# Altium footprint library SamacSys.PcbLib: 69 footprints (part 3 of 5)
Each footprint in its own frame and in the unit in brackets; x right, y up, seen from the top. Pads: shape width x height; smd on the part's side, far side on the other; paste and mask are expansions set on the pad; w line width, h text height; cw(c..) or ccw(c..) is an arc to the next point about the centre after c.
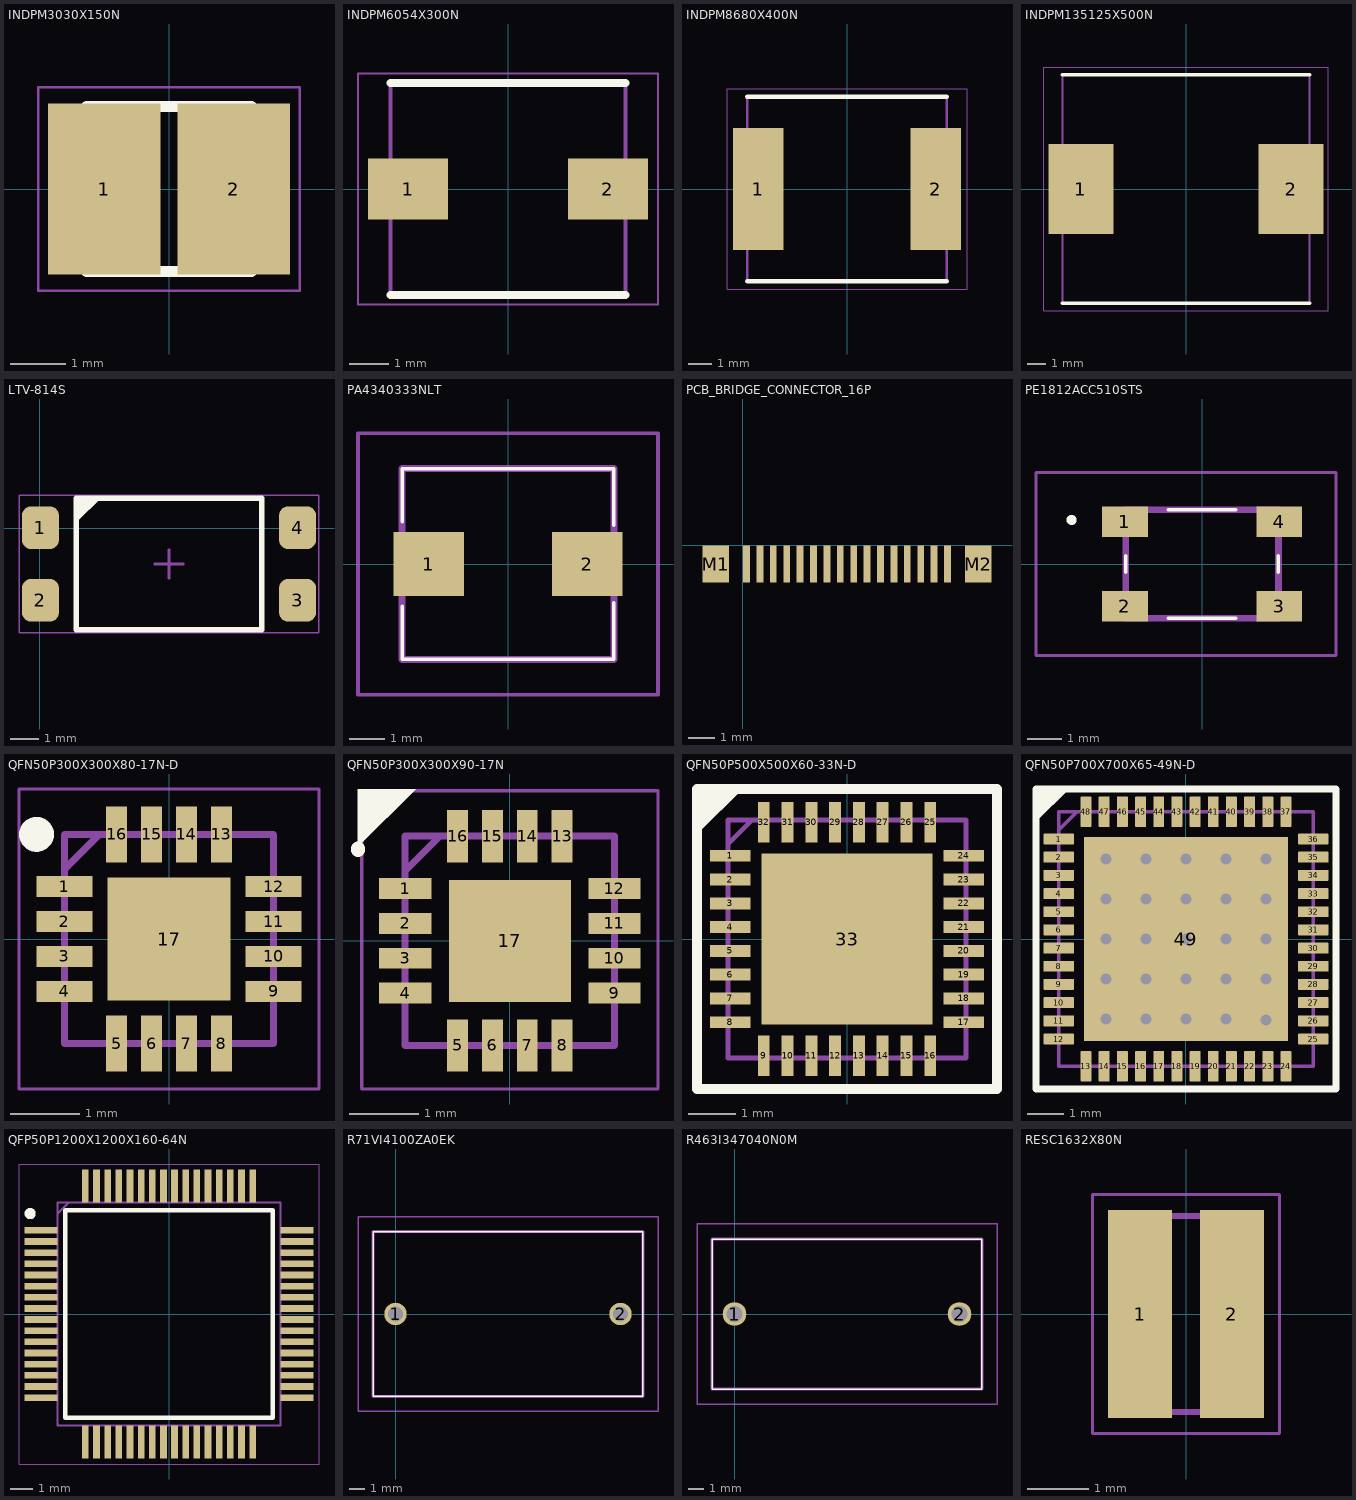
[diagram p2: the footprints below, top view; thin cyan lines are the x and y axes]

## INDPM3030X150N [mm]
pads (2):
  rect 2.05x3.1 smd: 1(-1.175,0) 2(1.175,0)
Top Overlay:
  lines w0.2: -1.5,-1.5 1.5,-1.5 ; -1.5,1.5 1.5,1.5
Mechanical 13:
  lines w0.1: -1.5,-1.5 1.5,-1.5 1.5,1.5 -1.5,1.5 -1.5,-1.5
Mechanical 15:
  lines w0.05: -2.375,-1.85 2.375,-1.85 2.375,1.85 -2.375,1.85 -2.375,-1.85
3D body "74438335010.stp": height 1.5, standoff 0, extent -1.5,-1.5 1.5,1.5

## INDPM6054X300N [mm]
pads (2):
  rect 2.05x1.55 smd: 1(-2.55,0) 2(2.55,0)
Top Overlay:
  lines w0.2: -3,-2.7 3,-2.7 ; -3,2.7 3,2.7
Mechanical 13:
  lines w0.1: -3,-2.7 3,-2.7 3,2.7 -3,2.7 -3,-2.7
Mechanical 15:
  lines w0.05: -3.825,-2.95 3.825,-2.95 3.825,2.95 -3.825,2.95 -3.825,-2.95
3D body "PA4340.472NLT.stp": height 3, standoff 0, extent -3,-2.7 3,2.7

## INDPM8680X400N [mm]
pads (2):
  rect 2.2x5.3 smd: 1(-3.85,0) 2(3.85,0)
Top Overlay:
  lines w0.2: -4.325,-4 4.325,-4 ; -4.325,4 4.325,4
Mechanical 13:
  lines w0.1: -4.325,-4 -4.325,4 4.325,4 4.325,-4 -4.325,-4
Mechanical 15:
  lines w0.05: -5.2,-4.35 -5.2,4.35 5.2,4.35 5.2,-4.35 -5.2,-4.35
3D body "MPX1D0840L470.stp": height 4, standoff 0, extent -4.325,-4 4.325,4

## INDPM135125X500N [mm]
pads (2):
  rect 3.55x4.9 smd: 1(-5.75,0) 2(5.75,0)
Top Overlay:
  lines w0.2: -6.75,-6.25 6.75,-6.25 ; -6.75,6.25 6.75,6.25
Mechanical 13:
  lines w0.1: -6.75,-6.25 -6.75,6.25 6.75,6.25 6.75,-6.25 -6.75,-6.25
Mechanical 15:
  lines w0.05: -7.775,-6.65 -7.775,6.65 7.775,6.65 7.775,-6.65 -7.775,-6.65
3D body "SRP1245A-R56M.stp": height 5, standoff 0, extent -6.75,-6.25 6.75,6.25

## LTV-814S [mm]
pads (4):
  rrect50% 1.3x1.5 smd: 1(0.017,0.026) 2(0.017,-2.514) 3(9.017,-2.514) 4(9.017,0.026)
Top Overlay:
  region: 1.342,0.28 2.104,1.042 1.281,1.042 1.267,1.056
  lines w0.2: 1.267,-3.544 1.267,1.056 7.767,1.056 7.767,-3.544 1.267,-3.544
Mechanical 13:
  lines w0.1: 1.267,-3.544 7.767,-3.544 7.767,1.056 1.267,1.056 1.267,-3.544
Mechanical 15:
  lines w0.05: -0.733,-3.644 9.767,-3.644 9.767,1.156 -0.733,1.156 -0.733,-3.644
  lines w0.1: 4.017,-1.244 5.017,-1.244 ; 4.517,-1.744 4.517,-0.744
3D body: height 4, standoff 0, extent 1.268,-3.543 7.766,1.055

## PA4340333NLT [mm]
pads (2):
  rect 2x1.8 smd: 1(-2.25,0) 2(2.25,0)
Top Overlay:
  lines w0.1: -3,-1.2 -3,-2.7 3,-2.7 3,-1.1 ; -3,1.2 -3,2.7 3,2.7 3,1.1
Mechanical 13:
  lines w0.2: -3,-2.7 -3,2.7 3,2.7 3,-2.7 -3,-2.7
Mechanical 15:
  lines w0.1: -4.25,-3.7 -4.25,3.7 4.25,3.7 4.25,-3.7 -4.25,-3.7
3D body "PA4340.333NLT.stp": height 3.1, standoff 0, extent -3.07,-2.7 3.07,2.7

## PCB_BRIDGE_CONNECTOR_16P [mm]
pads (18):
  rect 0.254x1.4 smd: 1(0.15,-0.7) 2(0.65,-0.7) 3(1.15,-0.7) 4(1.65,-0.7) 5(2.15,-0.7) 6(2.65,-0.7) 7(3.15,-0.7) 8(3.65,-0.7) 9(4.15,-0.7) 10(4.65,-0.7) 11(5.15,-0.7) 12(5.65,-0.7) 13(6.15,-0.7) 14(6.65,-0.7) 15(7.15,-0.7) 16(7.65,-0.7)
  rect 1x1.4 smd: M1(-1,-0.7) M2(8.8,-0.7)

## PE1812ACC510STS [mm]
pads (4):
  rect 1.35x0.9 smd: 1(-2.275,1.25) 2(-2.275,-1.25) 3(2.275,-1.25) 4(2.275,1.25)
Top Overlay:
  lines w0.1: -2.25,-0.25 -2.25,0.25 -2.25,-0.25 ; -1,-1.6 1,-1.6 -1,-1.6 ; -1,1.6 1,1.6 -1,1.6 ; 2.25,-0.25 2.25,0.25 2.25,-0.25
  lines w0.2: -3.9,1.3 ccw(c-3.85,1.3) -3.8,1.3 ; -3.9,1.3 cw(c-3.85,1.3) -3.8,1.3 ; -3.9,1.3 ccw(c-3.85,1.3) -3.8,1.3
Mechanical 13:
  lines w0.2: -2.25,-1.6 -2.25,1.6 2.25,1.6 2.25,-1.6 -2.25,-1.6
Mechanical 15:
  lines w0.1: -4.9,-2.7 -4.9,2.7 3.95,2.7 3.95,-2.7 -4.9,-2.7
3D body "PE-1812ACC510STS.stp": height 3.1, standoff 0, extent -2.86,-1.61 2.86,1.61

## QFN50P300X300X80-17N-D [mm]
pads (17):
  rect 0.8x0.3 smd: 1(-1.5,0.75) 2(-1.5,0.25) 3(-1.5,-0.25) 4(-1.5,-0.75) 9(1.5,-0.75) 10(1.5,-0.25) 11(1.5,0.25) 12(1.5,0.75)
  rect 0.3x0.8 smd: 5(-0.75,-1.5) 6(-0.25,-1.5) 7(0.25,-1.5) 8(0.75,-1.5) 13(0.75,1.5) 14(0.25,1.5) 15(-0.25,1.5) 16(-0.75,1.5)
  rect 1.76x1.76 smd: 17(0,0)
Top Overlay:
  circle w0.25: c-1.9,1.5 r0.125
Mechanical 13:
  lines w0.1: -1.5,1 -1,1.5 ; -1.5,-1.5 -1.5,1.5 1.5,1.5 1.5,-1.5 -1.5,-1.5
Mechanical 15:
  lines w0.05: -2.15,-2.15 -2.15,2.15 2.15,2.15 2.15,-2.15 -2.15,-2.15
3D body "LM51571QRTERQ1.stp": height 0.8, standoff 0, extent -1.5,-1.5 1.5,1.5

## QFN50P300X300X90-17N [mm]
pads (17):
  rect 0.75x0.3 smd: 1(-1.5,0.75) 2(-1.5,0.25) 3(-1.5,-0.25) 4(-1.5,-0.75) 9(1.5,-0.75) 10(1.5,-0.25) 11(1.5,0.25) 12(1.5,0.75)
  rect 0.3x0.75 smd: 5(-0.75,-1.5) 6(-0.25,-1.5) 7(0.25,-1.5) 8(0.75,-1.5) 13(0.75,1.5) 14(0.25,1.5) 15(-0.25,1.5) 16(-0.75,1.5)
  rect 1.75x1.75 smd: 17(0,0)
Top Overlay:
  region: -2.177,1.348 -1.35,2.175 -2.175,2.175 -2.177,2.177
  lines w0.2: -2.177,1.3 -2.177,1.323
Mechanical 13:
  lines w0.1: -1.5,1 -1,1.5 ; -1.5,-1.5 1.5,-1.5 1.5,1.5 -1.5,1.5 -1.5,-1.5
Mechanical 15:
  lines w0.05: -2.125,-2.125 2.125,-2.125 ; -2.125,-2.1 -2.125,2.15 2.125,2.15 2.125,-2.1
3D body "MIC2128YML-TR.stp": height 0.9, standoff 0, extent -1.55,-1.55 1.55,1.55

## QFN50P500X500X60-33N-D [mm]
pads (33):
  rect 0.85x0.25 smd: 1(-2.45,1.75) 2(-2.45,1.25) 3(-2.45,0.75) 4(-2.45,0.25) 5(-2.45,-0.25) 6(-2.45,-0.75) 7(-2.45,-1.25) 8(-2.45,-1.75) 17(2.45,-1.75) 18(2.45,-1.25) 19(2.45,-0.75) 20(2.45,-0.25) 21(2.45,0.25) 22(2.45,0.75) 23(2.45,1.25) 24(2.45,1.75)
  rect 0.25x0.85 smd: 9(-1.75,-2.45) 10(-1.25,-2.45) 11(-0.75,-2.45) 12(-0.25,-2.45) 13(0.25,-2.45) 14(0.75,-2.45) 15(1.25,-2.45) 16(1.75,-2.45) 25(1.75,2.45) 26(1.25,2.45) 27(0.75,2.45) 28(0.25,2.45) 29(-0.25,2.45) 30(-0.75,2.45) 31(-1.25,2.45) 32(-1.75,2.45)
  rect 3.6x3.6 smd: 33(0,0)
Top Overlay:
  region: -3.152,3.152 -3.152,2.25 -3.1,2.25 -2.201,3.149
  lines w0.2: -3.152,-3.152 3.152,-3.152 3.152,3.152 -3.152,3.152 -3.152,-3.152
Mechanical 13:
  lines w0.1: -2.5,2 -2,2.5 ; -2.5,-2.5 2.5,-2.5 2.5,2.5 -2.5,2.5 -2.5,-2.5
Mechanical 15:
  lines w0.05: -3.125,-3.125 3.125,-3.125 3.125,3.125 -3.125,3.125 -3.125,-3.125
3D body "STM32G431KBU3.stp": height 0.6, standoff 0, extent -2.55,-2.55 2.55,2.55

## QFN50P700X700X65-49N-D [mm]
pads (49):
  rrect20% 0.85x0.3 smd mask+0.06: 1(-3.5,2.75) 2(-3.5,2.25) 3(-3.5,1.75) 4(-3.5,1.25) 5(-3.5,0.75) 6(-3.5,0.25) 7(-3.5,-0.25) 8(-3.5,-0.75) 9(-3.5,-1.25) 10(-3.5,-1.75) 11(-3.5,-2.25) 12(-3.5,-2.75) 25(3.5,-2.75) 26(3.5,-2.25) 27(3.5,-1.75) 28(3.5,-1.25) 29(3.5,-0.75) 30(3.5,-0.25) 31(3.5,0.25) 32(3.5,0.75) 33(3.5,1.25) 34(3.5,1.75) 35(3.5,2.25) 36(3.5,2.75)
  rrect20% 0.3x0.85 smd mask+0.06: 13(-2.75,-3.5) 14(-2.25,-3.5) 15(-1.75,-3.5) 16(-1.25,-3.5) 17(-0.75,-3.5) 18(-0.25,-3.5) 19(0.25,-3.5) 20(0.75,-3.5) 21(1.25,-3.5) 22(1.75,-3.5) 23(2.25,-3.5) 24(2.75,-3.5) 37(2.75,3.5) 38(2.25,3.5) 39(1.75,3.5) 40(1.25,3.5) 41(0.75,3.5) 42(0.25,3.5) 43(-0.25,3.5) 44(-0.75,3.5) 45(-1.25,3.5) 46(-1.75,3.5) 47(-2.25,3.5) 48(-2.75,3.5)
  rect 5.6x5.6 smd mask+0.06: 49(0,0)
via 0,0 diameter 0.6 hole 0.3
via -1.1,0 diameter 0.6 hole 0.3
via -2.2,0 diameter 0.6 hole 0.3
via -2.2,2.2 diameter 0.6 hole 0.3
via -2.2,1.1 diameter 0.6 hole 0.3
via -2.2,-2.2 diameter 0.6 hole 0.3
via -2.2,-1.1 diameter 0.6 hole 0.3
via -1.1,1.1 diameter 0.6 hole 0.3
via -1.1,2.2 diameter 0.6 hole 0.3
via -1.1,-1.1 diameter 0.6 hole 0.3
via -1.1,-2.2 diameter 0.6 hole 0.3
via 0,-2.2 diameter 0.6 hole 0.3
via 0,-1.1 diameter 0.6 hole 0.3
via 0,1.1 diameter 0.6 hole 0.3
via 0,2.2 diameter 0.6 hole 0.3
via 1.1,2.2 diameter 0.6 hole 0.3
via 1.1,1.1 diameter 0.6 hole 0.3
via 1.1,0 diameter 0.6 hole 0.3
via 1.1,-1.1 diameter 0.6 hole 0.3
via 1.1,-2.2 diameter 0.6 hole 0.3
via 2.2,-2.225 diameter 0.6 hole 0.3
via 2.2,-1.1 diameter 0.6 hole 0.3
via 2.2,0 diameter 0.6 hole 0.3
via 2.2,1.1 diameter 0.6 hole 0.3
via 2.2,2.2 diameter 0.6 hole 0.3
Top Overlay:
  region: -4.125,4.125 -4.125,3.25 -4.1,3.25 -3.225,4.125
  lines w0.2: -4.125,-4.125 4.125,-4.125 4.125,4.125 -4.125,4.125 -4.125,-4.125
Mechanical 13:
  lines w0.1: -3.5,3 -3,3.5 ; -3.5,-3.5 3.5,-3.5 3.5,3.5 -3.5,3.5 -3.5,-3.5
Mechanical 15:
  lines w0.05: -4.125,-4.125 4.125,-4.125 4.125,4.125 -4.125,4.125 -4.125,-4.125
3D body "STM32G431CBU3.stp": height 0.65, standoff 0, extent -3.55,-3.55 3.55,3.55

## QFP50P1200X1200X160-64N [mm]
pads (64):
  rect 1.475x0.3 smd: 1(-5.738,3.75) 2(-5.738,3.25) 3(-5.738,2.75) 4(-5.738,2.25) 5(-5.738,1.75) 6(-5.738,1.25) 7(-5.738,0.75) 8(-5.738,0.25) 9(-5.738,-0.25) 10(-5.738,-0.75) 11(-5.738,-1.25) 12(-5.738,-1.75) 13(-5.738,-2.25) 14(-5.738,-2.75) 15(-5.738,-3.25) 16(-5.738,-3.75) 33(5.738,-3.75) 34(5.738,-3.25) 35(5.738,-2.75) 36(5.738,-2.25) 37(5.738,-1.75) 38(5.738,-1.25) 39(5.738,-0.75) 40(5.738,-0.25) 41(5.738,0.25) 42(5.738,0.75) 43(5.738,1.25) 44(5.738,1.75) 45(5.738,2.25) 46(5.738,2.75) 47(5.738,3.25) 48(5.738,3.75)
  rect 0.3x1.475 smd: 17(-3.75,-5.738) 18(-3.25,-5.738) 19(-2.75,-5.738) 20(-2.25,-5.738) 21(-1.75,-5.738) 22(-1.25,-5.738) 23(-0.75,-5.738) 24(-0.25,-5.738) 25(0.25,-5.738) 26(0.75,-5.738) 27(1.25,-5.738) 28(1.75,-5.738) 29(2.25,-5.738) 30(2.75,-5.738) 31(3.25,-5.738) 32(3.75,-5.738) 49(3.75,5.738) 50(3.25,5.738) 51(2.75,5.738) 52(2.25,5.738) 53(1.75,5.738) 54(1.25,5.738) 55(0.75,5.738) 56(0.25,5.738) 57(-0.25,5.738) 58(-0.75,5.738) 59(-1.25,5.738) 60(-1.75,5.738) 61(-2.25,5.738) 62(-2.75,5.738) 63(-3.25,5.738) 64(-3.75,5.738)
Top Overlay:
  circle w0.25: c-6.225,4.5 r0.125
  lines w0.2: -4.65,-4.65 4.65,-4.65 4.65,4.65 -4.65,4.65 -4.65,-4.65
Mechanical 13:
  lines w0.1: -5,4.5 -4.5,5 ; -5,-5 5,-5 5,5 -5,5 -5,-5
Mechanical 15:
  lines w0.05: -6.725,-6.725 6.725,-6.725 6.725,6.725 -6.725,6.725 -6.725,-6.725
3D body "STM32G431RBT6.stp": height 1.6, standoff 0, extent -6,-6 6,6

## R71VI4100ZA0EK [mm]
pads (2):
  round 1.5 hole 1: 1(0,0) 2(15,0)
Top Overlay:
  lines w0.1: -1.5,-5.5 16.5,-5.5 16.5,5.5 -1.5,5.5 -1.5,-5.5
Mechanical 13:
  lines w0.2: -1.5,-5.5 16.5,-5.5 16.5,5.5 -1.5,5.5 -1.5,-5.5
Mechanical 15:
  lines w0.1: -2.5,-6.5 17.5,-6.5 17.5,6.5 -2.5,6.5 -2.5,-6.5
3D body "R71VI4100ZA0EK.stp": height 19.2, standoff -5, extent -1.5,-5.5 16.5,5.5

## R463I347040N0M [mm]
pads (2):
  round 1.575 hole 1.05: 1(0,0) 2(15,0)
Top Overlay:
  lines w0.1: -1.5,-5 -1.5,5 16.5,5 16.5,-5 -1.5,-5
Mechanical 13:
  lines w0.2: -1.5,-5 -1.5,5 16.5,5 16.5,-5 -1.5,-5
Mechanical 15:
  lines w0.1: -2.5,-6 -2.5,6 17.5,6 17.5,-6 -2.5,-6
3D body "R463I347040N0M.stp": height 16.2, standoff -5, extent -1.5,-5 16.5,5

## RESC1632X80N [mm]
pads (2):
  rect 1.05x3.4 smd: 1(-0.75,0) 2(0.75,0)
Mechanical 13:
  lines w0.1: -0.8,-1.6 -0.8,1.6 0.8,1.6 0.8,-1.6 -0.8,-1.6
Mechanical 15:
  lines w0.05: -1.525,-1.95 -1.525,1.95 1.525,1.95 1.525,-1.95 -1.525,-1.95
3D body "FCSL32R003GER.stp": height 0.8, standoff 0, extent -0.8,-1.6 0.8,1.6